# EAGLE library part AS3935_LIGHTNINGDETECTOR (library DMF-AS3935_Project)
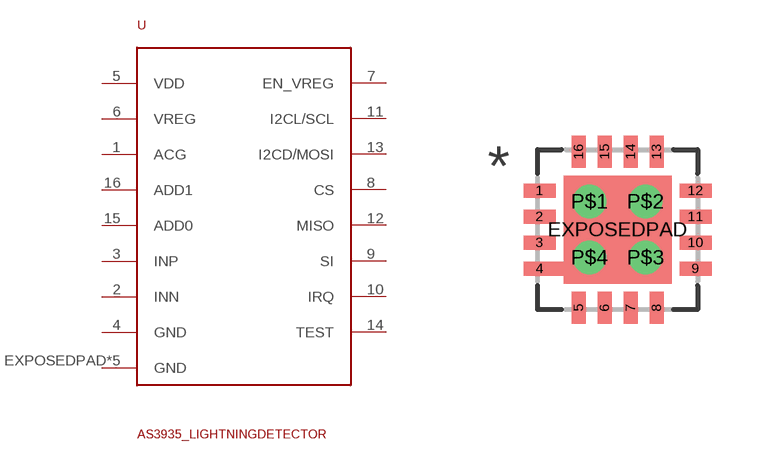
[diagram p0: symbol with the pads of AS3935_16LD_MLPQ; footprint AS3935_16LD_MLPQ]

Designator prefix U

## AS3935_LIGHTNINGDETECTOR  [AS3935_16LD_MLPQ]
1  ACG
2  INN
3  INP
4  GND
5  VDD
6  VREG
7  EN_VREG
8  CS
9  SI
10  IRQ
11  I2CL/SCL
12  MISO
13  I2CD/MOSI
14  TEST
15  ADD0
16  ADD1
EXPOSEDPAD  GND
P$1  GND
P$2  GND
P$3  GND
P$4  GND

## Footprint AS3935_16LD_MLPQ (pad centres in mm)
smd 0.8 x 0.35: 1 -1.95,0.975; 2 -1.95,0.325; 3 -1.95,-0.325; 4 -1.95,-0.975; 9 1.95,-0.975; 10 1.95,-0.325; 11 1.95,0.325; 12 1.95,0.975
smd 0.35 x 0.8: 5 -0.975,-1.95; 6 -0.325,-1.95; 7 0.325,-1.95; 8 0.975,-1.95; 13 0.975,1.95; 14 0.325,1.95; 15 -0.325,1.95; 16 -0.975,1.95
smd 2.7 x 2.7: EXPOSEDPAD 0,0
drill 0.33 pad 0.559: P$1 -0.7,0.7; P$2 0.7,0.7; P$3 0.7,-0.7; P$4 -0.7,-0.7